# Altium footprint library SOIC-8.PcbLib: 1 footprints
Each footprint in its own frame and in the unit in brackets; x right, y up, seen from the top. Pads: shape width x height; smd on the part's side, far side on the other; paste and mask are expansions set on the pad; w line width, h text height; cw(c..) or ccw(c..) is an arc to the next point about the centre after c.
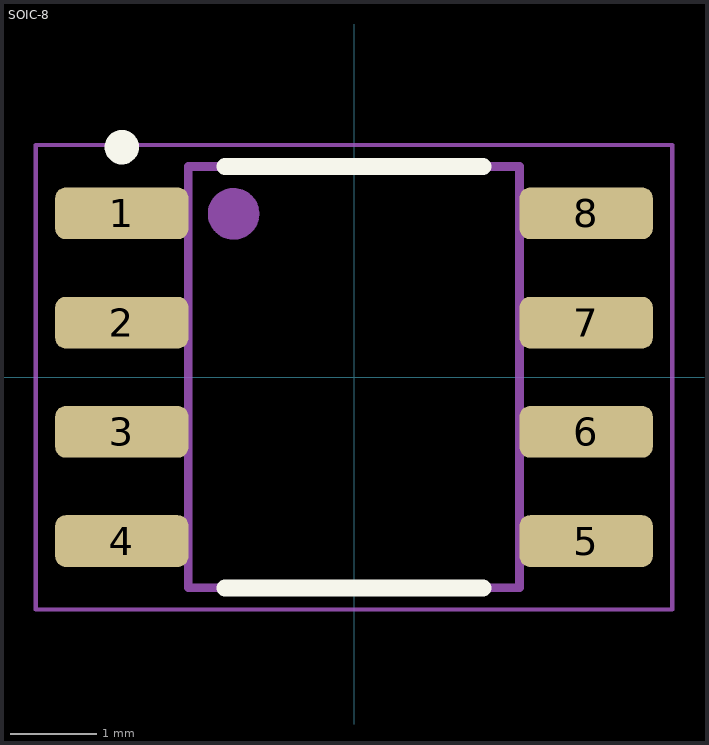
[diagram p0: the footprint, top view; thin cyan lines are the x and y axes]

## SOIC-8 [mm] "SOIC-8 package"
height 1.75
pads (8):
  rrect40% 1.55x0.6 smd mask+0.07: 1(-2.7,1.905) 2(-2.7,0.635) 3(-2.7,-0.635) 4(-2.7,-1.905) 5(2.7,-1.905) 6(2.7,-0.635) 7(2.7,0.635) 8(2.7,1.905)
Top Overlay:
  circle w0.2: c-2.7,2.675 r0.1
  lines w0.2: -1.5,-2.45 1.5,-2.45 ; -1.5,2.45 1.5,2.45
Top Assembly:
  circle w0.3: c-1.4,1.9 r0.15
  lines w0.1: -1.927,-2.45 1.925,-2.45 1.925,2.45 -1.927,2.45 -1.927,-2.45
Top Courtyard:
  lines w0.05: -3.7,-2.7 -3.7,2.7 3.7,2.7 3.7,-2.7 -3.7,-2.7
Top Designator:
  text ".Designator" at -3.999,-0.267 h0.8
3D body "SOIC8.STEP": height 1.5, standoff 0, extent -2.95,-2.45 2.95,2.45